# Altium schematic symbol library U_SN74LVC1G3157.SchLib: 1 symbol
Pins are listed as number, name and electrical type; pins without a type are passive.

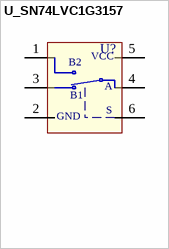
[diagram p0: symbol U_SN74LVC1G3157]

## U_SN74LVC1G3157
designator U?
pins: 1, 2, 3, 4, 5, 6
1 alternate drawing of the same symbol